# EAGLE library part USD-SOCKET (library TinWhiskers)
Connector: uSD, SD Configuration; Package: MicroSD; Datasheet: http://www.molex.com/molex/products/datasheet.jsp?part=active/0473340001_MEMORY_CARD_SOCKET.xml
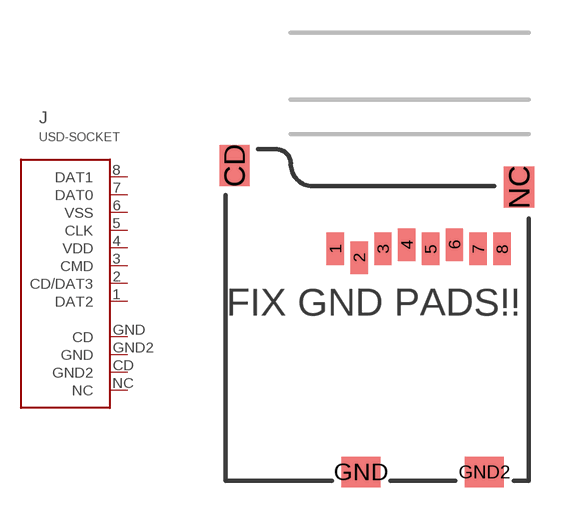
[diagram p29: symbol with the pads of MICRO-SD-SOCKET-PP; footprint MICRO-SD-SOCKET-PP]

Designator prefix J

## USD-SOCKET  [MICRO-SD-SOCKET-PP]
1  DAT2
2  CD/DAT3
3  CMD
4  VDD
5  CLK
6  VSS
7  DAT0
8  DAT1
CD  GND2
GND  CD
GND2  GND
NC  NC

## Footprint MICRO-SD-SOCKET-PP (pad centres in mm)
Connector: MicroSD; Package: SMT; Mfr: 4UCon, Molex (47334); Datasheet: http://www.molex.com/pdm_docs/sd/473340001_sd.pdf; Datasheet: http://cdn.sparkfun.com/datasheets/Components/General/15882.pdf
smd 0.8 x 1.5: 1 -8.94,10.7; 2 -7.84,10.3; 3 -6.74,10.7; 4 -5.64,10.9; 5 -4.54,10.7; 6 -3.44,10.9; 7 -2.34,10.7; 8 -1.24,10.7
smd 1.4 x 1.9: CD -13.6,14.55; NC -0.45,13.55
smd 1.8 x 1.4: GND -7.75,0.4; GND2 -2.05,0.4